# Altium schematic symbol library Schlib1.SchLib: 2 symbols
Pins are listed as number, name and electrical type; pins without a type are passive.

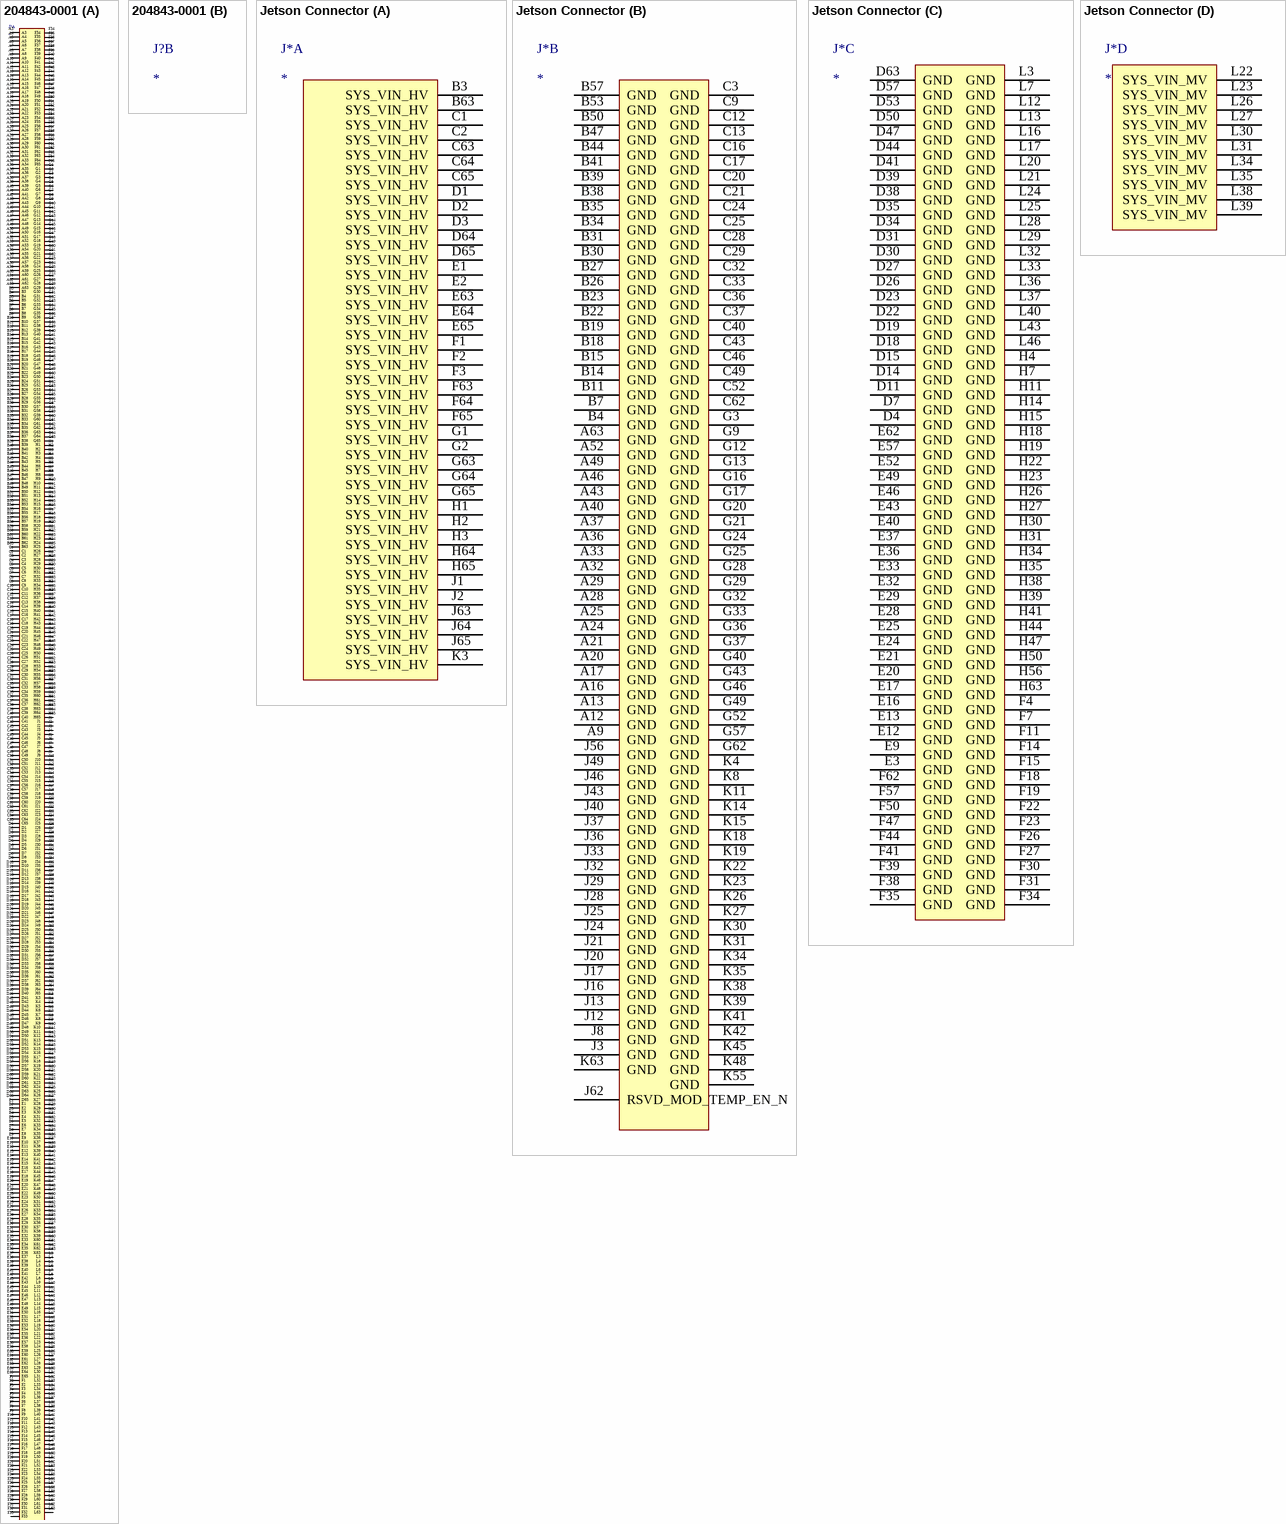
[diagram p0: symbols 204843-0001 to Jetson Connector]

## 204843-0001
designator J?
Connector; Manufacturer_Name: Molex; Manufacturer_Part_Number: 204843-0001; Datasheet Link: https://www.molex.com/pdm_docs/sd/2048430001_sd.pdf; Height: 4.65mm; Mouser Part Number: 538-204843-0001; Mouser Price/Stock: https://www.mouser.co.uk/ProductDetail/Molex/204843-0001?qs=byeeYqUIh0OFKpuvdTN0jA%3D%3D
footprint 2048430001
part A pins: A3, A4, A5, A6, A7, A8, A9, A10, A11, A12, A13, A14, A15, A16, A17, A18, A19, A20, A21, A22, A23, A24, A25, A26, A27, A28, A29, A30, A31, A32, A33, A34, A35, A36, A37, A38, A39, A40, A41, A42, A43, A44, A45, A46, A47, A48, A49, A50, A51, A52, A53, A54, A55, A56, A57, A58, A59, A60, A61, A62, A63, B3, B4, B5, B6, B7, B8, B9, B10, B11, B12, B13, B14, B15, B16, B17, B18, B19, B20, B21, B22, B23, B24, B25, B26, B27, B28, B29, B30, B31, B32, B33, B34, B35, B36, B37, B38, B39, B40, B41, B42, B43, B44, B45, B46, B47, B48, B49, B50, B51, B52, B53, B54, B55, B56, B57, B58, B59, B60, B61, B62, B63, C1, C2, C3, C4, C5, C6, C7, C8, C9, C10, C11, C12, C13, C14, C15, C16, C17, C18, C19, C20, C21, C22, C23, C24, C25, C26, C27, C28, C29, C30, C31, C32, C33, C34, C35, C36, C37, C38, C39, C40, C41, C42, C43, C44, C45, C46, C47, C48, C49, C50, C51, C52, C53, C54, C55, C56, C57, C58, C59, C60, C61, C62, C63, C64, C65, D1, D2, D3, D4, D5, D6, D7, D8, D9, D10, D11, D12, D13, D14, D15, D16, D17, D18, D19, D20, D21, D22, D23, D24, D25, D26, D27, D28, D29, D30, D31, D32, D33, D34, D35, D36, D37, D38, D39, D40, D41, D42, D43, D44, D45, D46, D47, D48, D49, D50, D51, D52, D53, D54, D55, D56, D57, D58, D59, D60, D61, D62, D63, D64, D65, E1, E2, E3, E4, E5, E6, E7, E8, E9, E10, E11, E12, E13, E14, E15, E16, E17, E18, E19, E20, E21, E22, E23, E24, E25, E26, E27, E28, E29, E30, E31, E32, E33, E34, E35, E36, E37, E38, E39, E40, E41, E42, E43, E44, E45, E46, E47, E48, E49, E50, E51, E52, E53, E54, E55, E56, E57, E58, E59, E60, E61, E62, E63, E64, E65, F1, F2, F3, F4, F5, F6, F7, F8, F9, F10, F11, F12, F13, F14, F15, F16, F17, F18, F19, F20, F21, F22, F23, F24, F25, F26, F27, F28, F29, F30, F31, F32, F33, F34, F35, F36, F37, F38, F39, F40, F41, F42, F43, F44, F45, F46, F47, F48, F49, F50, F51, F52, F53, F54, F55, F56, F57, F58, F59, F60, F61, F62, F63, F64, F65, G1, G2, G3, G4, G5, G6, G7, G8, G9, G10, G11, G12, G13, G14, G15, G16, G17, G18, G19, G20, G21, G22, G23, G24, G25, G26, G27, G28, G29, G30, G31, G32, G33, G34, G35, G36, G37, G38, G39, G40, G41, G42, G43, G44, G45, G46, G47, G48, G49, G50, G51, G52, G53, G54, G55, G56, G57, G58, G59, G60, G61, G62, G63, G64, G65, H1, H2, H3, H4, H5, H6, H7, H8, H9, H10, H11, H12, H13, H14, H15, H16, H17, H18, H19, H20, H21, H22, H23, H24, H25, H26, H27, H28, H29, H30, H31, H32, H33, H34, H35, H36, H37, H38, H39, H40, H41, H42, H43, H44, H45, H46, H47, H48, H49, H50, H51, H52, H53, H54, H55, H56, H57, H58, H59, H60, H61, H62, H63, H64, H65, J1, J2, J3, J4, J5, J6, J7, J8, J9, J10, J11, J12, J13, J14, J15, J16, J17, J18, J19, J20, J21, J22, J23, J24, J25, J26, J27, J28, J29, J30, J31, J32, J33, J34, J35, J36, J37, J38, J39, J40, J41, J42, J43, J44, J45, J46, J47, J48, J49, J50, J51, J52, J53, J54, J55, J56, J57, J58, J59, J60, J61, J62, J63, J64, J65, K3, K4, K5, K6, K7, K8, K9, K10, K11, K12, K13, K14, K15, K16, K17, K18, K19, K20, K21, K22, K23, K24, K25, K26, K27, K28, K29, K30, K31, K32, K33, K34, K35, K36, K37, K38, K39, K40, K41, K42, K43, K44, K45, K46, K47, K48, K49, K50, K51, K52, K53, K54, K55, K56, K57, K58, K59, K60, K61, K62, K63, L3, L4, L5, L6, L7, L8, L9, L10, L11, L12, L13, L14, L15, L16, L17, L18, L19, L20, L21, L22, L23, L24, L25, L26, L27, L28, L29, L30, L31, L32, L33, L34, L35, L36, L37, L38, L39, L40, L41, L42, L43, L44, L45, L46, L47, L48, L49, L50, L51, L52, L53, L54, L55, L56, L57, L58, L59, L60, L61, L62, L63

## Jetson Connector
designator J*
204843-0001
footprint 2048430001
part A pins: B3 SYS_VIN_HV, B63 SYS_VIN_HV, C1 SYS_VIN_HV, C2 SYS_VIN_HV, C63 SYS_VIN_HV, C64 SYS_VIN_HV, C65 SYS_VIN_HV, D1 SYS_VIN_HV, D2 SYS_VIN_HV, D3 SYS_VIN_HV, D64 SYS_VIN_HV, D65 SYS_VIN_HV, E1 SYS_VIN_HV, E2 SYS_VIN_HV, E63 SYS_VIN_HV, E64 SYS_VIN_HV, E65 SYS_VIN_HV, F1 SYS_VIN_HV, F2 SYS_VIN_HV, F3 SYS_VIN_HV, F63 SYS_VIN_HV, F64 SYS_VIN_HV, F65 SYS_VIN_HV, G1 SYS_VIN_HV, G2 SYS_VIN_HV, G63 SYS_VIN_HV, G64 SYS_VIN_HV, G65 SYS_VIN_HV, H1 SYS_VIN_HV, H2 SYS_VIN_HV, H3 SYS_VIN_HV, H64 SYS_VIN_HV, H65 SYS_VIN_HV, J1 SYS_VIN_HV, J2 SYS_VIN_HV, J63 SYS_VIN_HV, J64 SYS_VIN_HV, J65 SYS_VIN_HV, K3 SYS_VIN_HV
part B pins: A9 GND, A12 GND, A13 GND, A16 GND, A17 GND, A20 GND, A21 GND, A24 GND, A25 GND, A28 GND, A29 GND, A32 GND, A33 GND, A36 GND, A37 GND, A40 GND, A43 GND, A46 GND, A49 GND, A52 GND, A63 GND, B4 GND, B7 GND, B11 GND, B14 GND, B15 GND, B18 GND, B19 GND, B22 GND, B23 GND, B26 GND, B27 GND, B30 GND, B31 GND, B34 GND, B35 GND, B38 GND, B39 GND, B41 GND, B44 GND, B47 GND, B50 GND, B53 GND, B57 GND, C3 GND, C9 GND, C12 GND, C13 GND, C16 GND, C17 GND, C20 GND, C21 GND, C24 GND, C25 GND, C28 GND, C29 GND, C32 GND, C33 GND, C36 GND, C37 GND, C40 GND, C43 GND, C46 GND, C49 GND, C52 GND, C62 GND, G3 GND, G9 GND, G12 GND, G13 GND, G16 GND, G17 GND, G20 GND, G21 GND, G24 GND, G25 GND, G28 GND, G29 GND, G32 GND, G33 GND, G36 GND, G37 GND, G40 GND, G43 GND, G46 GND, G49 GND, G52 GND, G57 GND, G62 GND, J3 GND, J8 GND, J12 GND, J13 GND, J16 GND, J17 GND, J20 GND, J21 GND, J24 GND, J25 GND, J28 GND, J29 GND, J32 GND, J33 GND, J36 GND, J37 GND, J40 GND, J43 GND, J46 GND, J49 GND, J56 GND, J62 RSVD_MOD_TEMP_EN_N "Connecto to GND through a 0 Ohm resistor", K4 GND, K8 GND, K11 GND, K14 GND, K15 GND, K18 GND, K19 GND, K22 GND, K23 GND, K26 GND, K27 GND, K30 GND, K31 GND, K34 GND, K35 GND, K38 GND, K39 GND, K41 GND, K42 GND, K45 GND, K48 GND, K55 GND, K63 GND
part C pins: D4 GND, D7 GND, D11 GND, D14 GND, D15 GND, D18 GND, D19 GND, D22 GND, D23 GND, D26 GND, D27 GND, D30 GND, D31 GND, D34 GND, D35 GND, D38 GND, D39 GND, D41 GND, D44 GND, D47 GND, D50 GND, D53 GND, D57 GND, D63 GND, E3 GND, E9 GND, E12 GND, E13 GND, E16 GND, E17 GND, E20 GND, E21 GND, E24 GND, E25 GND, E28 GND, E29 GND, E32 GND, E33 GND, E36 GND, E37 GND, E40 GND, E43 GND, E46 GND, E49 GND, E52 GND, E57 GND, E62 GND, F4 GND, F7 GND, F11 GND, F14 GND, F15 GND, F18 GND, F19 GND, F22 GND, F23 GND, F26 GND, F27 GND, F30 GND, F31 GND, F34 GND, F35 GND, F38 GND, F39 GND, F41 GND, F44 GND, F47 GND, F50 GND, F57 GND, F62 GND, H4 GND, H7 GND, H11 GND, H14 GND, H15 GND, H18 GND, H19 GND, H22 GND, H23 GND, H26 GND, H27 GND, H30 GND, H31 GND, H34 GND, H35 GND, H38 GND, H39 GND, H41 GND, H44 GND, H47 GND, H50 GND, H56 GND, H63 GND, L3 GND, L7 GND, L12 GND, L13 GND, L16 GND, L17 GND, L20 GND, L21 GND, L24 GND, L25 GND, L28 GND, L29 GND, L32 GND, L33 GND, L36 GND, L37 GND, L40 GND, L43 GND, L46 GND
part D pins: L22 SYS_VIN_MV, L23 SYS_VIN_MV, L26 SYS_VIN_MV, L27 SYS_VIN_MV, L30 SYS_VIN_MV, L31 SYS_VIN_MV, L34 SYS_VIN_MV, L35 SYS_VIN_MV, L38 SYS_VIN_MV, L39 SYS_VIN_MV